# EAGLE library part MINI-USB-SHIELD- (library USB)
Mini/Micro USB Connector with Shield http://www.hirose.co.jp/cataloge_hp/e24000019.pdf http://portal.fciconnect.com/Comergent//fci/drawing/10118192.pdf
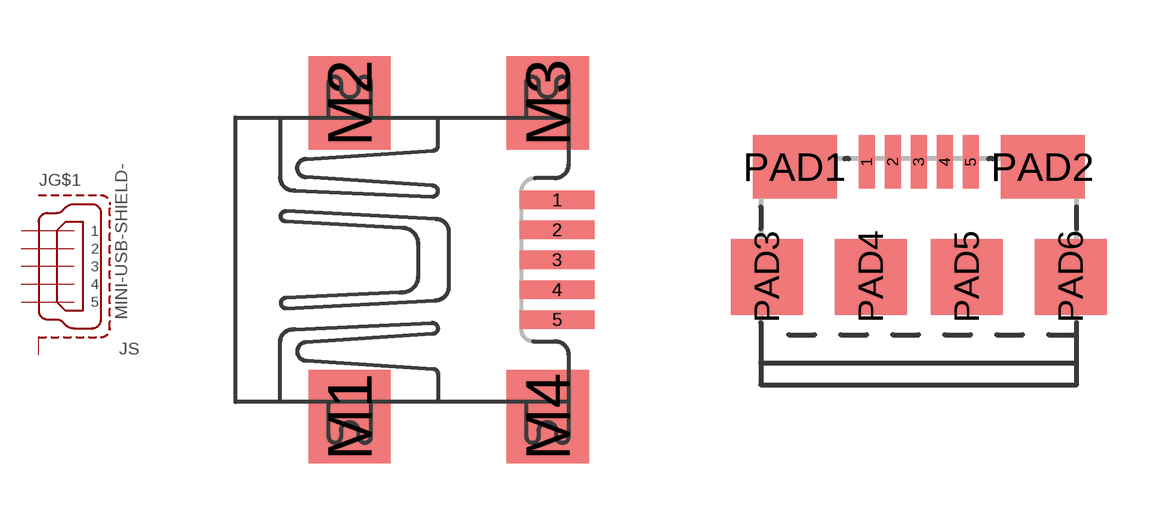
[diagram p15: symbol with the pads of UX60A-MB-5ST; footprints UX60A-MB-5ST, 10118192-0001LF]

Designator prefix J; gates G$1=MINI-USB S=USB-SHIELD

## MINI-USB-SHIELD--UX60A-MB-5ST (MF: Hirose; MPN: UX60A-MB-5ST; REVIEWED: NO; TESTED: NO; TYPE: Mini-B; VALUE: Mini-B)  [UX60A-MB-5ST]
1  G$1:1  in
2  G$1:2  in
3  G$1:3  in
4  G$1:4
5  G$1:5  in
M1  S:S1  pas
M2  S:S1  pas
M3  S:S1  pas

## MINI-USB-SHIELD--10118192 (MF: FCI; MPN: 10118192-0001LF; REVIEWED: NO; TESTED: NO; TYPE: Micro-B; VALUE: Micro-B)  [10118192-0001LF]
1  G$1:1  in
2  G$1:2  in
3  G$1:3  in
4  G$1:4
5  G$1:5  in
PAD1  S:S1  pas
PAD2  S:S1  pas
PAD3  S:S1  pas
PAD4  S:S1  pas
PAD5  S:S1  pas
PAD6  S:S1  pas

## Footprint UX60A-MB-5ST (pad centres in mm)
MINI USB Connector HI-SPEED Certified Metal Shield SMT Type Without Positioning Post Source: http://www.hirose.co.jp/cataloge_hp/e24000019.pdf
smd 2 x 0.5: 1 2.25,1.6; 2 2.25,0.8; 3 2.25,0; 4 2.25,-0.8; 5 2.25,-1.6
smd 2.2 x 2.5: M1 -3.3,-4.2; M2 -3.3,4.2; M3 2,4.2; M4 2,-4.2

## Footprint 10118192-0001LF (pad centres in mm)
FCI USB Micro-B R/A SMT Connector http://portal.fciconnect.com/Comergent//fci/drawing/10118192.pdf
smd 0.4 x 1.35: 1 -1.3,2.875; 2 -0.65,2.875; 3 0,2.875; 4 0.65,2.875; 5 1.3,2.875
smd 2.1 x 1.6: PAD1 -3.1,2.75; PAD2 3.1,2.75
smd 1.8 x 1.9: PAD3 -3.8,0; PAD4 -1.2,0; PAD5 1.2,0; PAD6 3.8,0